# Altium schematic symbol library S2B-PH-SM4-TB.Schlib: 1 symbol
Pins are listed as number, name and electrical type; pins without a type are passive.

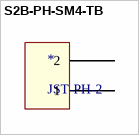
[diagram p0: symbol S2B-PH-SM4-TB]

## S2B-PH-SM4-TB
designator *, comment JST-PH-2
CONN SM JST PH 2-POS
pins: 1, 2